# Altium footprint library CAPC - CAPacitorChip.PcbLib: 30 footprints (part 2 of 2)
Each footprint in its own frame and in the unit in brackets; x right, y up, seen from the top. Pads: shape width x height; smd on the part's side, far side on the other; paste and mask are expansions set on the pad; w line width, h text height; cw(c..) or ccw(c..) is an arc to the next point about the centre after c.
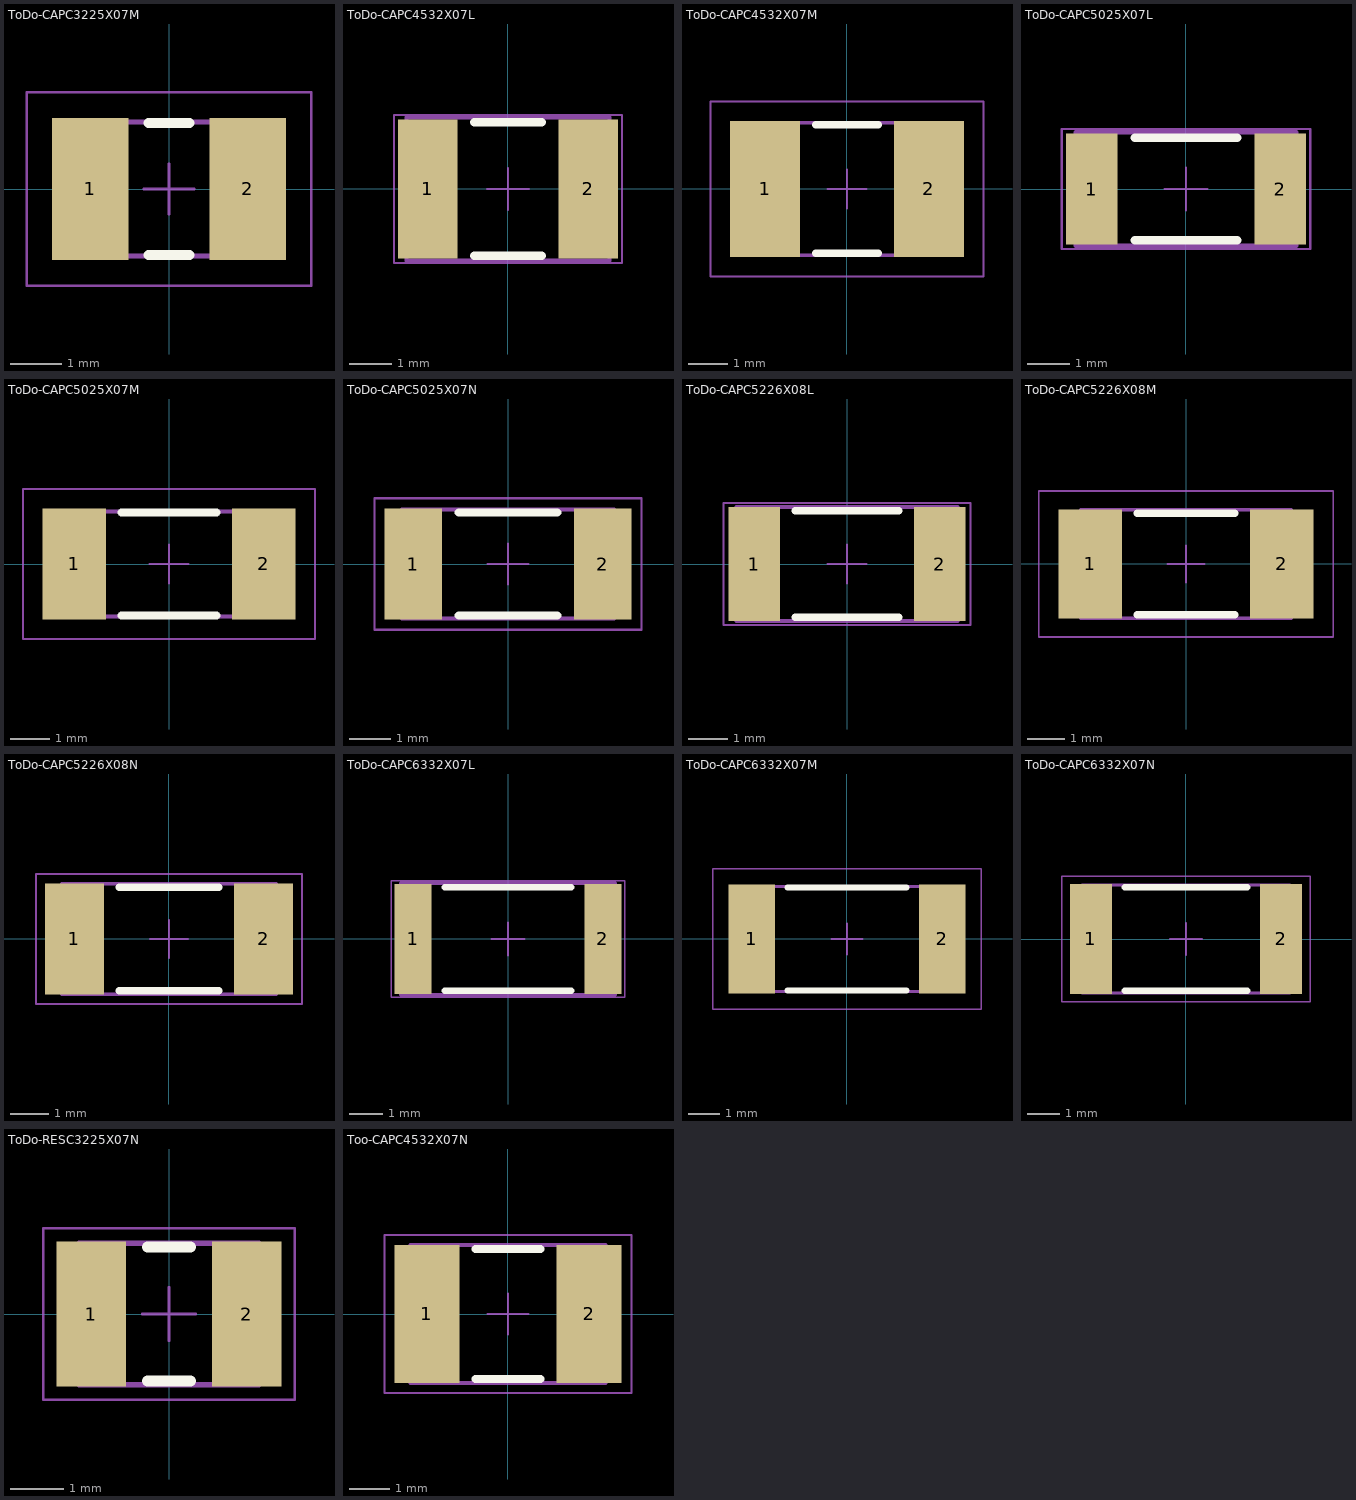
[diagram p1: the footprints below, top view; thin cyan lines are the x and y axes]

## ToDo-CAPC3225X07M [mm] "Chip Resistor, Body 3.2x2.5mm, IPC Low Density, EIA 1210"
height 0.71
pads (2):
  rect 1.5x2.8 smd: 1(-1.55,0) 2(1.55,0)
Top Overlay:
  lines w0.2: -0.4,-1.3 0.4,-1.3 ; -0.4,1.3 0.4,1.3
TopBody:
  lines w0.1: -1.675,-1.32 -1.675,1.32 1.675,1.32 1.675,-1.32 -1.675,-1.32
TopCourtyard:
  lines w0.05: -0.5,0 0.5,0 ; 0,-0.5 0,0.5 ; -2.8,-1.9 -2.8,1.9 2.8,1.9 2.8,-1.9 -2.8,-1.9
3D body: height 0.71, standoff 0, extent -1.675,-1.32 1.675,1.32

## ToDo-CAPC4532X07L [mm] "Chip Resistor, Body 4.5x3.2mm, IPC High Density, EIA1812"
height 0.7
pads (2):
  rect 1.4x3.3 smd: 1(-1.9,0) 2(1.9,0)
Top Overlay:
  lines w0.2: -0.8,-1.575 0.8,-1.575 ; -0.8,1.575 0.8,1.575
TopBody:
  lines w0.1: -2.4,-1.7 2.4,-1.7 2.4,1.7 -2.4,1.7 -2.4,-1.7
TopCourtyard:
  lines w0.05: -0.5,0 0.5,0 ; 0,-0.5 0,0.5 ; -2.7,-1.75 2.7,-1.75 2.7,1.75 -2.7,1.75 -2.7,-1.75
3D body: height 0.7, standoff 0, extent -2.4,-1.7 2.4,1.7

## ToDo-CAPC4532X07M [mm] "Chip Resistor, Body 4.5x3.2mm, IPC Low Density, EIA1812"
height 0.71
pads (2):
  rect 1.8x3.5 smd: 1(-2.1,0) 2(2.1,0)
Top Overlay:
  lines w0.2: -0.8,-1.65 0.8,-1.65 ; -0.8,1.65 0.8,1.65
TopBody:
  lines w0.1: -2.4,-1.7 -2.4,1.7 2.4,1.7 2.4,-1.7 -2.4,-1.7
TopCourtyard:
  lines w0.05: -0.5,0 0.5,0 ; 0,-0.5 0,0.5 ; -3.5,-2.25 -3.5,2.25 3.5,2.25 3.5,-2.25 -3.5,-2.25
3D body: height 0.71, standoff 0, extent -2.4,-1.7 2.4,1.7

## ToDo-CAPC5025X07L [mm] "Chip Resistor, Body 5.0x2.5mm, IPC High Density, EIA 2010"
height 0.7
pads (2):
  rect 1.2x2.6 smd: 1(-2.2,0) 2(2.2,0)
Top Overlay:
  lines w0.2: -1.2,-1.2 1.2,-1.2 ; -1.2,1.2 1.2,1.2
TopBody:
  lines w0.1: -2.575,-1.325 -2.575,1.325 2.575,1.325 2.575,-1.325 -2.575,-1.325
TopCourtyard:
  lines w0.05: -0.5,0 0.5,0 ; 0,-0.5 0,0.5 ; -2.9,-1.4 -2.9,1.4 2.9,1.4 2.9,-1.4 -2.9,-1.4
3D body: height 0.7, standoff 0, extent -2.575,-1.325 2.575,1.325

## ToDo-CAPC5025X07M [mm] "Chip Resistor, Body 5.0x2.5mm, IPC Low Density, EIA 2010"
height 0.71
pads (2):
  rect 1.6x2.8 smd: 1(-2.4,0) 2(2.4,0)
Top Overlay:
  lines w0.2: -1.2,-1.3 1.2,-1.3 ; -1.2,1.3 1.2,1.3
TopBody:
  lines w0.1: -2.575,-1.325 -2.575,1.325 2.575,1.325 2.575,-1.325 -2.575,-1.325
TopCourtyard:
  lines w0.05: -0.5,0 0.5,0 ; 0,-0.5 0,0.5 ; -3.7,-1.9 -3.7,1.9 3.7,1.9 3.7,-1.9 -3.7,-1.9
3D body: height 0.71, standoff 0, extent -2.575,-1.325 2.575,1.325

## ToDo-CAPC5025X07N [mm] "Chip Resistor, Body 5.0x2.5mm, IPC Medium Density, EIA 2010"
height 0.71
pads (2):
  rect 1.4x2.7 smd: 1(-2.3,0) 2(2.3,0)
Top Overlay:
  lines w0.2: -1.2,-1.25 1.2,-1.25 ; -1.2,1.25 1.2,1.25
TopBody:
  lines w0.1: -2.575,-1.325 2.575,-1.325 2.575,1.325 -2.575,1.325 -2.575,-1.325
TopCourtyard:
  lines w0.05: -0.5,0 0.5,0 ; 0,-0.5 0,0.5 ; -3.25,-1.6 3.25,-1.6 3.25,1.6 -3.25,1.6 -3.25,-1.6
3D body: height 0.71, standoff 0, extent -2.575,-1.325 2.575,1.325

## ToDo-CAPC5226X08L [mm] "Chip Resistor, 2-Leads, Body 5.2x2.6mm, IPC High Density"
height 0.84
pads (2):
  rect 1.3x2.9 smd: 1(-2.35,0) 2(2.35,0)
Top Overlay:
  lines w0.2: -1.3,-1.35 1.3,-1.35 ; -1.3,1.35 1.3,1.35
TopBody:
  lines w0.1: -2.805,-1.445 -2.805,1.445 2.805,1.445 2.805,-1.445 -2.805,-1.445
TopCourtyard:
  lines w0.05: -0.5,0 0.5,0 ; 0,-0.5 0,0.5 ; -3.125,-1.55 -3.125,1.55 3.125,1.55 3.125,-1.55 -3.125,-1.55
3D body: height 0.84, standoff 0, extent -2.805,-1.445 2.805,1.445

## ToDo-CAPC5226X08M [mm] "Chip Resistor, 2-Leads, Body 5.2x2.6mm, IPC Low Density"
height 0.84
pads (2):
  rect 1.7x2.9 smd: 1(-2.55,0) 2(2.55,0)
Top Overlay:
  lines w0.2: -1.3,-1.35 1.3,-1.35 ; -1.3,1.35 1.3,1.35
TopBody:
  lines w0.1: -2.805,-1.445 -2.805,1.445 2.805,1.445 2.805,-1.445 -2.805,-1.445
TopCourtyard:
  lines w0.05: -0.5,0 0.5,0 ; 0,-0.5 0,0.5 ; -3.925,-1.95 -3.925,1.95 3.925,1.95 3.925,-1.95 -3.925,-1.95
3D body: height 0.84, standoff 0, extent -2.805,-1.445 2.805,1.445

## ToDo-CAPC5226X08N [mm] "Chip Resistor, 2-Leads, Body 5.2x2.6mm, IPC Medium Density"
height 0.84
pads (2):
  rect 1.55x2.9 smd: 1(-2.475,0) 2(2.475,0)
Top Overlay:
  lines w0.2: -1.3,-1.35 1.3,-1.35 ; -1.3,1.35 1.3,1.35
TopBody:
  lines w0.1: -2.805,-1.445 2.805,-1.445 2.805,1.445 -2.805,1.445 -2.805,-1.445
TopCourtyard:
  lines w0.05: -0.5,0 0.5,0 ; 0,-0.5 0,0.5 ; -3.475,-1.7 3.475,-1.7 3.475,1.7 -3.475,1.7 -3.475,-1.7
3D body: height 0.84, standoff 0, extent -2.805,-1.445 2.805,1.445

## ToDo-CAPC6332X07L [mm] "Chip Resistor, Body 6.3x3.2mm, IPC High Density, EIA 2512"
height 0.7
pads (2):
  rect 1.1x3.3 smd: 1(-2.85,0) 2(2.85,0)
Top Overlay:
  lines w0.2: -1.9,-1.55 1.9,-1.55 ; -1.9,1.55 1.9,1.55
TopBody:
  lines w0.1: -3.225,-1.675 3.225,-1.675 3.225,1.675 -3.225,1.675 -3.225,-1.675
TopCourtyard:
  lines w0.05: -0.5,0 0.5,0 ; 0,-0.5 0,0.5 ; -3.5,-1.75 3.5,-1.75 3.5,1.75 -3.5,1.75 -3.5,-1.75
3D body: height 0.7, standoff 0, extent -3.225,-1.675 3.225,1.675

## ToDo-CAPC6332X07M [mm] "Chip Resistor, Body 6.3x3.2mm, IPC Low Density, EIA 2512"
height 0.71
pads (2):
  rect 1.5x3.5 smd: 1(-3.05,0) 2(3.05,0)
Top Overlay:
  lines w0.2: -1.9,-1.65 1.9,-1.65 ; -1.9,1.65 1.9,1.65
TopBody:
  lines w0.1: -3.225,-1.675 -3.225,1.675 3.225,1.675 3.225,-1.675 -3.225,-1.675
TopCourtyard:
  lines w0.05: -0.5,0 0.5,0 ; 0,-0.5 0,0.5 ; -4.3,-2.25 -4.3,2.25 4.3,2.25 4.3,-2.25 -4.3,-2.25
3D body: height 0.71, standoff 0, extent -3.225,-1.675 3.225,1.675

## ToDo-CAPC6332X07N [mm] "Chip Resistor, Body 6.3x3.2mm, IPC Medium Density, EIA 2512"
height 0.71
pads (2):
  rect 1.3x3.4 smd: 1(-2.95,0) 2(2.95,0)
Top Overlay:
  lines w0.2: -1.9,-1.6 1.9,-1.6 ; -1.9,1.6 1.9,1.6
TopBody:
  lines w0.1: -3.225,-1.675 3.225,-1.675 3.225,1.675 -3.225,1.675 -3.225,-1.675
TopCourtyard:
  lines w0.05: -0.5,0 0.5,0 ; 0,-0.5 0,0.5 ; -3.85,-1.95 3.85,-1.95 3.85,1.95 -3.85,1.95 -3.85,-1.95
3D body: height 0.71, standoff 0, extent -3.225,-1.675 3.225,1.675

## ToDo-RESC3225X07N [mm] "Chip Resistor, Body 3.2x2.5mm, IPC Medium Density, EIA 1210"
height 0.71
pads (2):
  rect 1.3x2.7 smd: 1(-1.45,0) 2(1.45,0)
Top Overlay:
  lines w0.2: -0.4,-1.25 0.4,-1.25 ; -0.4,1.25 0.4,1.25
TopBody:
  lines w0.1: -1.675,-1.32 1.675,-1.32 1.675,1.32 -1.675,1.32 -1.675,-1.32
TopCourtyard:
  lines w0.05: -0.5,0 0.5,0 ; 0,-0.5 0,0.5 ; -2.35,-1.6 2.35,-1.6 2.35,1.6 -2.35,1.6 -2.35,-1.6
3D body: height 0.71, standoff 0, extent -1.675,-1.32 1.675,1.32

## Too-CAPC4532X07N [mm] "Chip Resistor, Body 4.5x3.2mm, IPC Medium Density, EIA1812"
height 0.71
pads (2):
  rect 1.6x3.4 smd: 1(-2,0) 2(2,0)
Top Overlay:
  lines w0.2: -0.8,-1.6 0.8,-1.6 ; -0.8,1.6 0.8,1.6
TopBody:
  lines w0.1: -2.4,-1.7 -2.4,1.7 2.4,1.7 2.4,-1.7 -2.4,-1.7
TopCourtyard:
  lines w0.05: -0.5,0 0.5,0 ; 0,-0.5 0,0.5 ; -3.05,-1.95 -3.05,1.95 3.05,1.95 3.05,-1.95 -3.05,-1.95
3D body: height 0.71, standoff 0, extent -2.4,-1.7 2.4,1.7